# Altium schematic symbol library Schlib1.schlib: 3 symbols
Pins are listed as number, name and electrical type; pins without a type are passive.

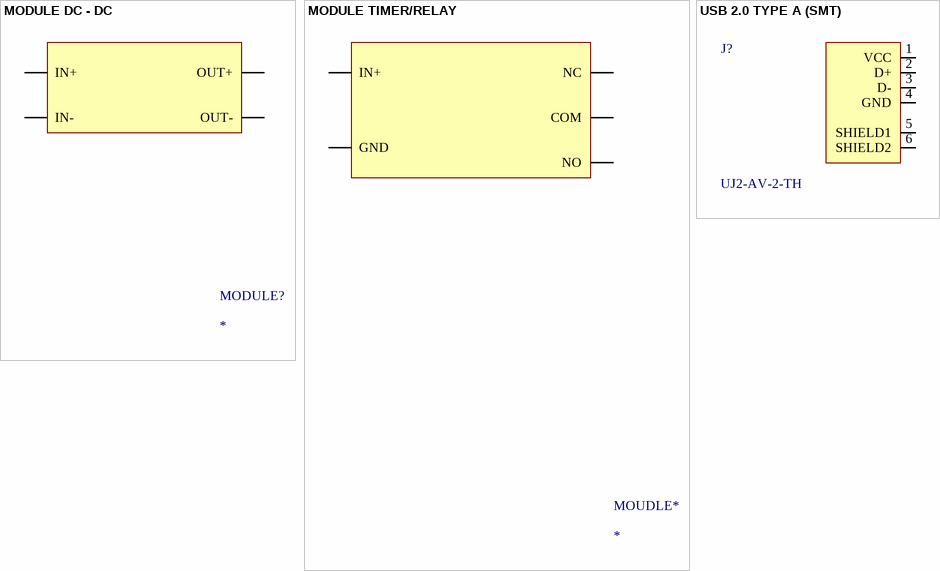
[diagram p0: symbols MODULE DC - DC to USB 2.0 TYPE A (SMT)]

## MODULE DC - DC
designator MODULE?
MODULE DC-DC 8A 200W
footprint MODULE DC - DC
pins: IN+, IN-, OUT+, OUT-

## MODULE TIMER/RELAY
designator MOUDLE*
footprint MODULE TIMER/RELAY
pins: COM, GND, IN+, NC, NO

## USB 2.0 TYPE A (SMT)
designator J?, comment UJ2-AV-2-TH
MF: CUI Inc.; Package: None; SnapEDA_Link: https://www.snapeda.com/parts/UJ2-AV-2-TH/CUI%20Inc./view-part/?ref=snap; Price: None; Availability: Unavailable; MP: UJ2-AV-2-TH; CUI_purchase_URL: https://www.cui.com/product/interconnect/connectors/usb-connectors/uj2-av-th-series?utm_source=snapeda.com&utm_medium=referral&utm_campaign=snapedaBOM; Value: *
footprint *CUI_UJ2-AV-2-TH_UJ2-AV-2-TH(Primary)
pins: 1 VCC, 2 D+, 3 D-, 4 GND, 5 SHIELD1, 6 SHIELD2